# Altium schematic symbol library S8550.SchLib: 1 symbol
Pins are listed as number, name and electrical type; pins without a type are passive.

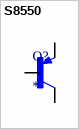
[diagram p0: symbol S8550]

## S8550
designator Q?
Bipolar (BJT) Transistor PNP 25 V 500 mA 150MHz 300 mW Surface Mount SOT-23; MF: MDD; MP: S8550; SnapEDA_Link: https://www.snapeda.com/parts/S8550/MDD/view-part/?ref=snap; Package: SOT-23 MDD; Value: *; Check_prices: https://www.snapeda.com/parts/S8550/MDD/view-part/?ref=eda
footprint TRANS_S8550
pins: 1 B, 2 E, 3 C